# Altium schematic symbol library SCH - PASSIVES - POTENTIOMETER DUAL GANG.SchLib: 1 symbol
Pins are listed as number, name and electrical type; pins without a type are passive.

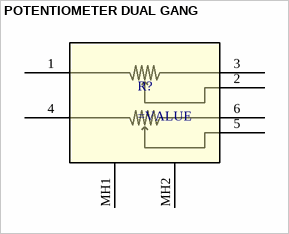
[diagram p0: symbol POTENTIOMETER DUAL GANG]

## POTENTIOMETER DUAL GANG
designator R?
pins: 1, 2, 3, 4, 5, 6, MH1, MH2